# Altium footprint library ADA4857-1YCPZ-R7.PcbLib: 1 footprints
Each footprint in its own frame and in the unit in brackets; x right, y up, seen from the top. Pads: shape width x height; smd on the part's side, far side on the other; paste and mask are expansions set on the pad; w line width, h text height; cw(c..) or ccw(c..) is an arc to the next point about the centre after c.
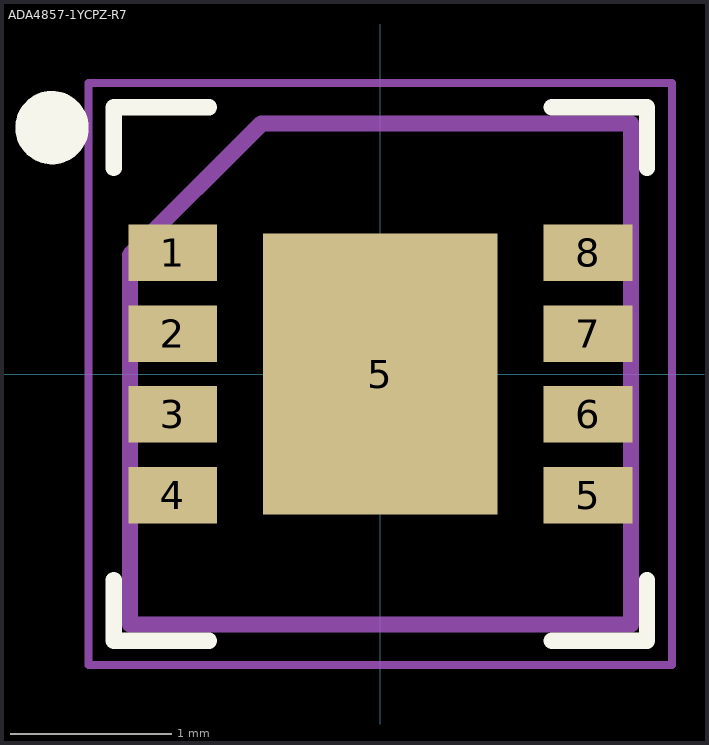
[diagram p0: the footprint, top view; thin cyan lines are the x and y axes]

## ADA4857-1YCPZ-R7 [mm]
height 0.8
pads (9):
  rect 0.55x0.35 smd: 1(-1.285,0.75) 2(-1.285,0.25) 3(-1.285,-0.25) 4(-1.285,-0.75) 5(1.285,-0.75) 6(1.285,-0.25) 7(1.285,0.25) 8(1.285,0.75)
  rect 1.45x1.74 smd: 5(0,0)
Top Overlay:
  circle w0.254: c-2.032,1.524 r0.1
  lines w0.1: -1.65,-1.275 -1.65,-1.65 -1.06,-1.65 ; -1.65,1.275 -1.65,1.65 -1.06,1.65 ; 1.06,-1.65 1.65,-1.65 1.65,-1.275 ; 1.06,1.65 1.65,1.65 1.65,1.275
Mechanical 1:
  lines w0.1: -1.55,-1.55 1.55,-1.55 1.55,1.55 -0.736,1.55 -1.55,0.736 -1.55,-1.55
  text ".Designator" at -3.304,-0.293 h0.65
Mechanical 2:
  lines w0.05: -1.805,-1.8 -1.805,1.8 1.805,1.8 1.805,-1.8 -1.805,-1.8
  lines w0.1: -0.5,0 0.5,0 ; 0,-0.5 0,0.5
3D body "ADA4857-1.step": height 0.8, standoff 0, extent -1.551,-1.55 1.551,1.55